# Altium schematic symbol library Karen_Components.SchLib: 203 symbols (part 1 of 2)
Pins are listed as number, name and electrical type; pins without a type are passive.

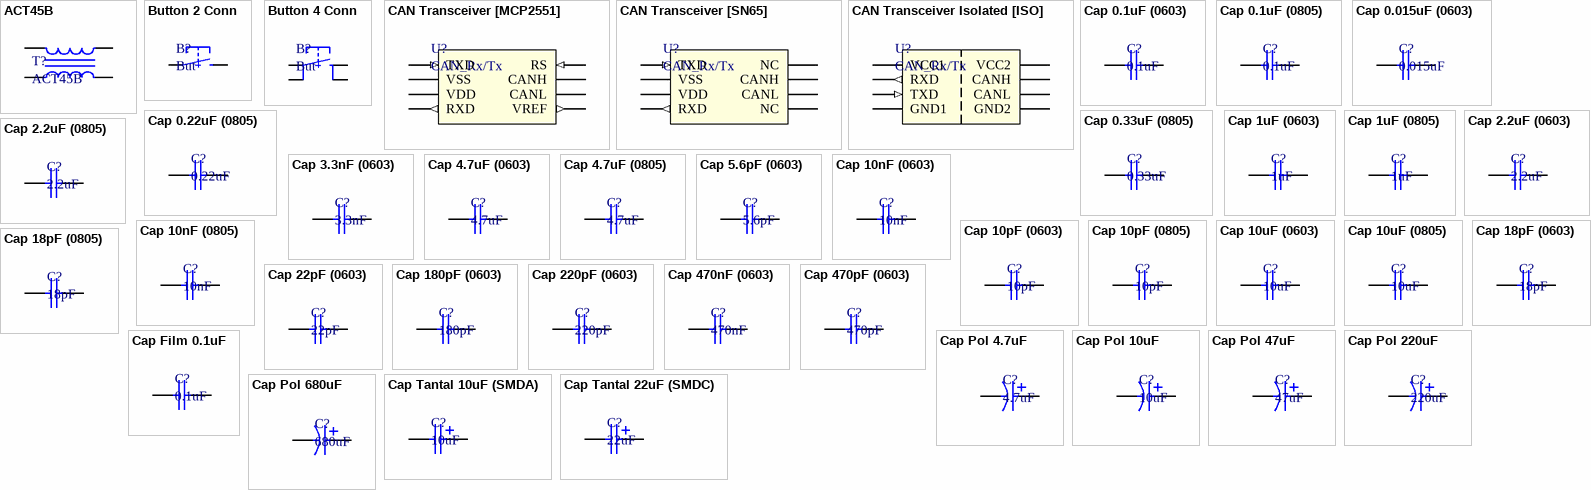
[diagram p0: symbols ACT45B to Cap Tantal 22uF (SMDC)]

## ACT45B
designator T?
Common mode filters / Automotive signal line (for power train/safety); Manufacturer: EMC Components; Part Number: ACT45B-510-2P-TL003; Type: Inductor; ComponentLink1Description: DataSheet; ComponentLink1URL: https://product.tdk.com/info/en/catalog/datasheets/cmf_automotive_signal_act45b_en.pdf
footprint ACT45B
pins: 1, 2, 3, 4

## Button 2 Conn
designator B?, comment But
Button 2 Conn SMD; Part Number: L-KLS7-TS3608-5.0-180; Manufacturer: KLS electronic co ltd; Type: Button; ComponentLink1Description: Chip&Dip; ComponentLink1URL: https://www.chipdip.ru/product/kls7-ts3608-5.0-180-td-02xa
footprint BUTTON 4x3
pins: 1, 2

## Button 4 Conn
designator B?, comment But
Button 4 Conn SMD; Manufacturer: TE Connectivity; Part Number: 1571563-9; Type: Button; ComponentLink1Description: Chip&Dip; ComponentLink1URL: https://www.chipdip.ru/product/tyco-1571563-9-fsm8jsmatr
footprint Button 6x6
pins: 1, 2, 3, 4

## CAN Transceiver [MCP2551]
designator U?, comment CAN_Rx/Tx
High-speed  CAN,  fault-tolerantdevice  that  serves  as  the  interface  between  a  CANprotocol controller and the physical bus.; Part Number: MCP2551-I/SN; Manufacturer: Microchip; ComponentLink1Description: DataSheet; ComponentLink1URL: https://static.chipdip.ru/lib/204/DOC000204457.pdf; ComponentLink2Description: Chip&Dip; ComponentLink2URL: https://www.chipdip.ru/product/mcp2551-i-sn; Type: IC
footprint SO-8
pins: 1 TXD (in), 2 VSS (power), 3 VDD (power), 4 RXD (out), 5 VREF (out), 6 CANL (oc), 7 CANH (oc), 8 RS (in)

## CAN Transceiver [SN65]
designator U?, comment CAN_Rx/Tx
3.3V CAN Transceiver; Part Number: SN65HVD232D; Manufacturer: Texas Instruments; ComponentLink1Description: DataSheet; ComponentLink1URL: https://static.chipdip.ru/lib/204/DOC000204848.pdf; ComponentLink2Description: Chip&Dip; ComponentLink2URL: https://www.chipdip.ru/product/sn65hvd230d?from=suggest_product; Type: IC
footprint SO-8
pins: 1 TXD (in), 2 VSS (power), 3 VDD (power), 4 RXD (out), 5 NC, 6 CANL (oc), 7 CANH (oc), 8 NC

## CAN Transceiver Isolated [ISO]
designator U?, comment CAN_Rx/Tx
Galvanically isolated CAN transceiver that meets the specifications of  the ISO11898-2 standard; Part Number: ISO1050DUB; Manufacturer: Texas Instruments; ComponentLink1Description: DataSheet; ComponentLink1URL: https://static.chipdip.ru/lib/143/DOC004143969.pdf; ComponentLink2Description: Chip&Dip; ComponentLink2URL: https://www.chipdip.ru/product/iso1050dub; Type: IC
footprint dub-8
pins: 1 VCC1 (power), 2 RXD (out), 3 TXD (in), 4 GND1 (power), 5 GND2 (power), 6 CANL (oc), 7 CANH (oc), 8 VCC2 (power)

## Cap 0.1uF (0603)
designator C?, comment 0.1uF
0.1uF X7R 16V 10% 0603; Manufacturer: Murata Manufacturing; Part Number: GRM188R71C104KA01D; Type: Capacitor; ComponentLink1Description: Chip&Dip; ComponentLink1URL: https://www.chipdip.ru/product/grm188r71c104ka01d
footprint 0603 Capicator
pins: 1, 2

## Cap 0.1uF (0805)
designator C?, comment 0.1uF
0.1uF X7R 50V 10% 0805; Manufacturer: Murata Manufacturing; Part Number: GRM21BR71E104KA01L; Type: Capacitor; ComponentLink1Description: Chip&Dip; ComponentLink1URL: https://www.chipdip.ru/product/grm21br71e104ka01l
footprint 0805 Capicator
pins: 1, 2

## Cap 0.015uF (0603)
designator C?, comment 0.015uF
0.015uF X7R 50V 10% 0603; Manufacturer: Taiwan; Part Number: MLCC0.015uFX7R50V10%0603; Type: Capacitor; ComponentLink1Description: Chip&Dip; ComponentLink1URL: https://www.chipdip.ru/product0/895412441
footprint 0603 Capicator
pins: 1, 2

## Cap 0.22uF (0805)
designator C?, comment 0.22uF
0.22uF X7R 50V 10% 0805; Manufacturer: Murata Manufacturing; Part Number: GRM21BR71H224KA01L; Type: Capacitor; ComponentLink1Description: Chip&Dip; ComponentLink1URL: https://www.chipdip.ru/product/grm21br71h224k
footprint 0805 Capicator
pins: 1, 2

## Cap 0.33uF (0805)
designator C?, comment 0.33uF
0.33uF X7R 25V 10% 0805; Manufacturer: Murata Manufacturing; Part Number: GRM21BR71E334KA01L; Type: Capacitor; ComponentLink1Description: Chip&Dip; ComponentLink1URL: https://www.chipdip.ru/product/grm21br71e334k
footprint 0805 Capicator
pins: 1, 2

## Cap 1uF (0603)
designator C?, comment 1uF
1uF X5R 25V 10% 0603; Manufacturer: Murata Manufacturing; Part Number: GRM188R61E105KAADD; Type: Capacitor; ComponentLink1Description: Chip&Dip; ComponentLink1URL: https://www.chipdip.ru/product/grm188r61e105k
footprint 0603 Capicator
pins: 1, 2

## Cap 1uF (0805)
designator C?, comment 1uF
1uF X7R 10% 16V 0805; Manufacturer: Murata Manufacturing; Part Number: GRM21BR71C105KA01K; Type: Capacitor; ComponentLink1Description: Chip&Dip; ComponentLink1URL: https://www.chipdip.ru/product/grm21br71c105k
footprint 0805 Capicator
pins: 1, 2

## Cap 2.2uF (0603)
designator C?, comment 2.2uF
2.2uF X5R 10V 10% 0603; Manufacturer: Murata Manufacturing; Part Number: GRM188R61A225KE34D; Type: Capacitor; ComponentLink1Description: Chip&Dip; ComponentLink1URL: https://www.chipdip.ru/product/grm188r61a225k
footprint 0603 Capicator
pins: 1, 2

## Cap 2.2uF (0805)
designator C?, comment 2.2uF
2.2uF X7R 25V 0805; Manufacturer: Murata Manufacturing; Part Number: GRM21BR71E225KA73L; Type: Capacitor; ComponentLink1Description: Chip&Dip; ComponentLink1URL: https://www.chipdip.ru/product/grm21br71e225k
footprint 0805 Capicator
pins: 1, 2

## Cap 3.3nF (0603)
designator C?, comment 3.3nF
X7R 3.3nF 100V 10% 0603; Manufacturer: Murata Manufacturing; Part Number: GRM188R72A332KA01D; Type: Capacitor; ComponentLink1Description: Chip&Dip; ComponentLink1URL: https://www.chipdip.ru/product/grm188r72a332ka01d
footprint 0603 Capicator
pins: 1, 2

## Cap 4.7uF (0603)
designator C?, comment 4.7uF
4.7uF X5R 6.3V 10% 0603; Manufacturer: Murata Manufacturing; Part Number: GRM188R60J475KE19D; Type: Capacitor; ComponentLink1Description: Chip&Dip; ComponentLink1URL: https://www.chipdip.ru/product/grm185r60g475me15d
footprint 0603 Capicator
pins: 1, 2

## Cap 4.7uF (0805)
designator C?, comment 4.7uF
4.7uF X5R 10% 25V 0805; Manufacturer: Murata Manufacturing; Part Number: GRM21BR61E475KA12L; Type: Capacitor; ComponentLink1Description: Chip&Dip; ComponentLink1URL: https://www.chipdip.ru/product/grm21br61e475ka12l
footprint 0805 Capicator
pins: 1, 2

## Cap 5.6pF (0603)
designator C?, comment 5.6pF
10pF NP0 50V 5% 0603; Manufacturer: Murata Manufacturing; Part Number: GRM1885C1H5R6CZ01D; Type: Capacitor; ComponentLink1Description: Chip&Dip; ComponentLink1URL: https://www.chipdip.ru/product/grm1885c1h5r6c
footprint 0603 Capicator
pins: 1, 2

## Cap 10nF (0603)
designator C?, comment 10nF
X7R 10nF 100V 10% 0603; Manufacturer: Murata Manufacturing; Part Number: GRM188R72A103KA01D; Type: Capacitor; ComponentLink1Description: Chip&Dip; ComponentLink1URL: https://www.chipdip.ru/product/grm188r72a103ka01d
footprint 0603 Capicator
pins: 1, 2

## Cap 10nF (0805)
designator C?, comment 10nF
0805 X7R 10nF 100V 10%; Manufacturer: Murata Manufacturing; Part Number: GRM21BR72A103KA01L; Type: Capacitor; ComponentLink1Description: Chip&Dip; ComponentLink1URL: https://www.chipdip.ru/product/grm21br72a103ka01l
footprint 0805 Capicator
pins: 1, 2

## Cap 10pF (0603)
designator C?, comment 10pF
10pF NP0 50V 5% 0603; Manufacturer: Murata Manufacturing; Part Number: GRM1885C1H100JA01D; Type: Capacitor; ComponentLink1Description: Chip&Dip; ComponentLink1URL: https://www.chipdip.ru/product/grm1885c1h100j
footprint 0603 Capicator
pins: 1, 2

## Cap 10pF (0805)
designator C?, comment 10pF
10pF NP0 50V 5% 0805; Manufacturer: Murata Manufacturing; Part Number: GRM2165C1H100JZ01D; Type: Capacitor; ComponentLink1Description: Chip&Dip; ComponentLink1URL: https://www.chipdip.ru/product/grm2165c1h100j
footprint 0805 Capicator
pins: 1, 2

## Cap 10uF (0603)
designator C?, comment 10uF
10uF X5R 25V 20% 0603; Manufacturer: Murata Manufacturing; Part Number: GRM188R61E106M; Type: Capacitor; ComponentLink1Description: Chip&Dip; ComponentLink1URL: https://www.chipdip.ru/product/grm188r61e106m
footprint 0603 Capicator
pins: 1, 2

## Cap 10uF (0805)
designator C?, comment 10uF
10uF X5R 10% 16V 0805; Manufacturer: Murata Manufacturing; Part Number: GRM21BR61C106KE15L; Type: Capacitor; ComponentLink1Description: Chip&Dip; ComponentLink1URL: https://www.chipdip.ru/product/grm21br61c106ke15l
footprint 0805 Capicator
pins: 1, 2

## Cap 18pF (0603)
designator C?, comment 18pF
18pF NP0 50V 5% 0603; Manufacturer: Murata Manufacturing; Part Number: GRM1885C1H180JA01D; Type: Capacitor; ComponentLink1Description: Chip&Dip; ComponentLink1URL: https://www.chipdip.ru/product/grm1885c1h180j
footprint 0603 Capicator
pins: 1, 2

## Cap 18pF (0805)
designator C?, comment 18pF
18pF NP0 50V 5% 0805; Manufacturer: Murata Manufacturing; Part Number: GRM2165C1H180JD01D; Type: Capacitor; ComponentLink1Description: Chip&Dip; ComponentLink1URL: https://www.chipdip.ru/product/grm2165c1h180j
footprint 0805 Capicator
pins: 1, 2

## Cap 22pF (0603)
designator C?, comment 22pF
22pF NP0 50V 5% 0603; Manufacturer: Taiwan; Part Number: MLCC22pFNPO50V5%0603; Type: Capacitor; ComponentLink1Description: Chip&Dip; ComponentLink1URL: https://www.chipdip.ru/product0/472852716
footprint 0603 Capicator
pins: 1, 2

## Cap 180pF (0603)
designator C?, comment 180pF
180pF NP0 50V 5% 0603; Manufacturer: Murata Manufacturing; Part Number: GRM1885C1H181JA01D; Type: Capacitor; ComponentLink1Description: Chip&Dip; ComponentLink1URL: https://www.chipdip.ru/product/grm1885c1h181j
footprint 0603 Capicator
pins: 1, 2

## Cap 220pF (0603)
designator C?, comment 220pF
220pF NP0 50V 5% 0603; Manufacturer: Murata Manufacturing; Part Number: GRM1885C1H221J; Type: Capacitor; ComponentLink1Description: Chip&Dip; ComponentLink1URL: https://www.chipdip.ru/product/grm1885c1h221j
footprint 0603 Capicator
pins: 1, 2

## Cap 470nF (0603)
designator C?, comment 470nF
470nF X7R 25V 10% 0603; Manufacturer: Murata Manufacturing; Part Number: GRM188R71E474KA12D; Type: Capacitor; ComponentLink1Description: Chip&Dip; ComponentLink1URL: https://www.chipdip.ru/product/grm188r71e474ka12d
footprint 0603 Capicator
pins: 1, 2

## Cap 470pF (0603)
designator C?, comment 470pF
470pF NP0 50V 5% 0603; Manufacturer: Taiwan; Part Number: MLCC470pFNPO50V5%0603; Type: Capacitor; ComponentLink1Description: Chip&Dip; ComponentLink1URL: https://www.chipdip.ru/product0/515359566
footprint 0603 Capicator
pins: 1, 2

## Cap Film 0.1uF
designator C?, comment 0.1uF
0.1uF 1000V 5%; Manufacturer: Epcos; Part Number: B32652A0104J000; Type: Capacitor; ComponentLink1Description: Chip&Dip; ComponentLink1URL: https://www.chipdip.ru/product/b32652a0104j000; ComponentLink2Description: DataSheet; ComponentLink2URL: https://static.chipdip.ru/lib/423/DOC004423752.pdf
footprint CAP Film 9x18 (DS1069-6 MR)
pins: 1, 2

## Cap Pol 4.7uF
designator C?, comment 4.7uF
ECAP SMD,  35V, 105°C; Part Number: B41121A7475M000; Manufacturer: Epcos; Type: Capacitor; ComponentLink1Description: Chip&Dip; ComponentLink1URL: https://www.chipdip.ru/product/b41121a7475m000
footprint Bar Cap 4x5.4
pins: 1, 2

## Cap Pol 10uF
designator C?, comment 10uF
ECAP SMD,  35V; Part Number: ECAPSMD10uF/35V; Manufacturer: China; Type: Capacitor; ComponentLink1Description: Chip&Dip; ComponentLink1URL: https://www.chipdip.ru/product0/884555856
footprint Bar Cap 5x5.4
pins: 1, 2

## Cap Pol 47uF
designator C?, comment 47uF
ECAP SMD,  25V, 105°C, 20%; Part Number: JCK1E470M063054; Manufacturer: JB; Type: Capacitor; ComponentLink1Description: Chip&Dip; ComponentLink1URL: https://www.chipdip.ru/product0/9000565730
footprint Bar Cap 6.3x7.7
pins: 1, 2

## Cap Pol 220uF
designator C?, comment 220uF
ECAP SMD,  10V, 105°C, 20%; Part Number: JCK1A221M063077; Manufacturer: JB; Type: Capacitor; ComponentLink1Description: Chip&Dip; ComponentLink1URL: https://www.chipdip.ru/product0/9000565740
footprint Bar Cap 6.3x7.7
pins: 1, 2

## Cap Pol 680uF
designator C?, comment 680uF
ECAP, 16V, 105°C, 20%, 8x16mm; Part Number: JRB1C681M03500800160000B; Manufacturer: JB; Type: Capacitor; ComponentLink1Description: Chip&Dip; ComponentLink1URL: https://www.chipdip.ru/product0/9000565740
footprint ECAP 8x16mm
pins: 1, 2

## Cap Tantal 10uF (SMDA)
designator C?, comment 10uF
TECAP, 10uF, 16V, case A, 10%; Part Number: 373033076; Manufacturer: China; Type: Capacitor; ComponentLink1Description: Chip&Dip; ComponentLink1URL: https://www.chipdip.ru/product0/373033076
footprint TANTAL_A_CASE
pins: 1, 2

## Cap Tantal 22uF (SMDC)
designator C?, comment 22uF
TECAP, 22uF, 16V, case C, 10%; Part Number: TECAP22/16VC10; Manufacturer: China; Type: Capacitor; ComponentLink1Description: Chip&Dip; ComponentLink1URL: https://www.chipdip.ru/product0/527359843
footprint TANTAL_C_CASE
pins: 1, 2

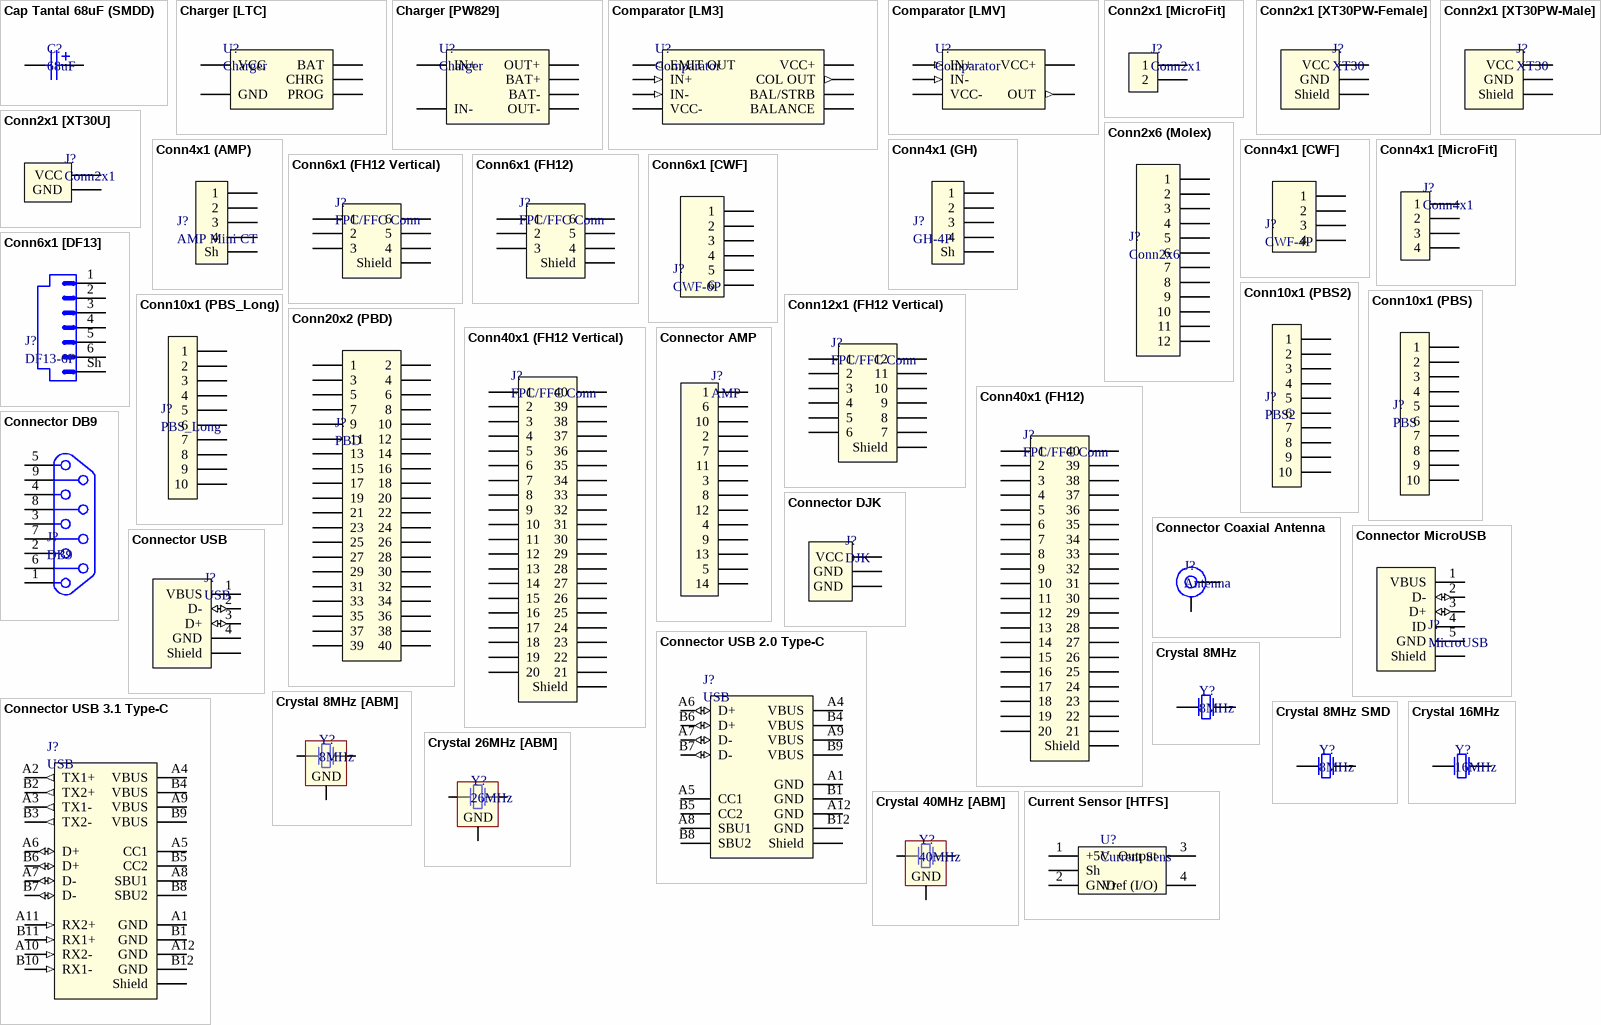
[diagram p1: symbols Cap Tantal 68uF (SMDD) to Current Sensor [HTFS]]

## Cap Tantal 68uF (SMDD)
designator C?, comment 68uF
TECAP, 68uF, 16V, case D, 10%; Part Number: TECAP68/16VD10; Manufacturer: China; Type: Capacitor; ComponentLink1Description: Chip&Dip; ComponentLink1URL: https://www.chipdip.ru/product0/979125339
footprint TANTAL_D_CASE
pins: 1, 2

## Charger [LTC]
designator U?, comment Charger
The LTC®4054 is a complete constant-current/constant-voltage linear charger for single cell lithium-ion batteries.Its ThinSOT package and low external component countmake the LTC4054 ideally suited for portable applications.Furthermore, the LTC4054 is specifically designed to workwithin USB power specifications; Part Number: LTC4054ES5-4.2#PBF; Manufacturer: Linear Technology; ComponentLink2Description: Chip&Dip; ComponentLink2URL: https://www.chipdip.ru/product/ltc4054es5-4.2; Type: IC; ComponentLink3Description: DataSheet; ComponentLink3URL: https://static.chipdip.ru/lib/760/DOC000760847.pdf
footprint SOT-23-5
pins: 1 CHRG, 2 GND (power), 3 BAT (power), 4 VCC (power), 5 PROG

## Charger [PW829]
designator U?, comment Charger
Charger for Li-Ion; Part Number: PW829; Manufacturer: Master Kit; ComponentLink2Description: Chip&Dip; ComponentLink2URL: https://www.chipdip.ru/product0/8002091037; Type: IC
footprint PW829
pins: B+ BAT+ (power), B- BAT- (power), IN+ (power), IN- (power), OUT+ (power), OUT- (power)

## Comparator [LM3]
designator U?, comment Comparator
Differential comparator with strobes; Part Number: LM311DR; Manufacturer: Texas Instruments; ComponentLink1Description: DataSheet; ComponentLink1URL: https://static.chipdip.ru/lib/222/DOC000222396.pdf; ComponentLink2Description: Chip&Dip; ComponentLink2URL: https://www.chipdip.ru/product/lm311d; Type: IC
footprint SO-8
pins: 1 EMIT OUT (out), 2 IN+ (in), 3 IN- (in), 4 VCC- (power), 5 BALANCE (oc), 6 BAL/STRB (oc), 7 COL OUT (out), 8 VCC+ (power)

## Comparator [LMV]
designator U?, comment Comparator
LMV7219 7-ns 2.7-V to 5-V Comparator with Rail-to-Rail Output; Part Number: LMV7219M5X/NOPB; Manufacturer: Texas Instruments; ComponentLink1Description: DataSheet; ComponentLink1URL: http://www.ti.com/lit/ds/symlink/lmv7219.pdf; ComponentLink2Description: Mouser; ComponentLink2URL: https://ru.mouser.com/ProductDetail/Texas-Instruments/LMV7219M5X-NOPB?qs=sGAEpiMZZMuayl%2FEk2kXcbEcxwmoPguctVQUIBgrLJY%3D; Type: IC
footprint SOT-23-5
pins: 1 OUT (out), 2 VCC- (power), 3 IN+ (in), 4 IN- (in), 5 VCC+ (power)

## Conn2x1 [MicroFit]
designator J?, comment Conn2x1
Micro-Fit 3.0 Right-Angle Header, 3.00mm Pitch, Single Row, 2 Circuits, with Snap-in Plastic Peg PCB Lock, Tin, Glow-Wire Capable, Black; Part Number: 436500200; Manufacturer: Molex; ComponentLink1Description: Molex; ComponentLink1URL: https://www.molex.com/molex/products/part-detail/pcb_headers/0436500200; Type: Connector
footprint MolexMicroFit 2x1
pins: 1, 2

## Conn2x1 [XT30PW-Female]
designator J?, comment XT30
Part Number: XT30PW; Manufacturer: Amass; ComponentLink1Description: AliExpress; ComponentLink1URL: https://ru.aliexpress.com/item/4000070113352.html?spm=a2g0o.productlist.0.0.39dd34bfyYuspa&algo_pvid=4d7d83f5-6270-4220-b100-9b5f13b0846d&algo_expid=4d7d83f5-6270-4220-b100-9b5f13b0846d-3&btsid=c67bc929-e3be-4af3-9fd9-25ac13ce4818&ws_ab_test=searchweb0_0,searchweb201602_,searchweb201603_55; Type: Connector
footprint HEADER 2 XT30PW FeMale
pins: 1 GND, 2 VCC, A Shield

## Conn2x1 [XT30PW-Male]
designator J?, comment XT30
Part Number: XT30PW; Manufacturer: Amass; ComponentLink1Description: AliExpress; ComponentLink1URL: https://ru.aliexpress.com/item/4000070113352.html?spm=a2g0o.productlist.0.0.39dd34bfyYuspa&algo_pvid=4d7d83f5-6270-4220-b100-9b5f13b0846d&algo_expid=4d7d83f5-6270-4220-b100-9b5f13b0846d-3&btsid=c67bc929-e3be-4af3-9fd9-25ac13ce4818&ws_ab_test=searchweb0_0,searchweb201602_,searchweb201603_55; Type: Connector
footprint HEADER 2 XT30PW Male
pins: 1 VCC, 2 GND, A Shield

## Conn2x1 [XT30U]
designator J?, comment Conn2x1
Part Number: XT30U; Manufacturer: Amass; ComponentLink1Description: AliExpress; ComponentLink1URL: https://ru.aliexpress.com/item/4000070113352.html?spm=a2g0o.productlist.0.0.39dd34bfyYuspa&algo_pvid=4d7d83f5-6270-4220-b100-9b5f13b0846d&algo_expid=4d7d83f5-6270-4220-b100-9b5f13b0846d-3&btsid=c67bc929-e3be-4af3-9fd9-25ac13ce4818&ws_ab_test=searchweb0_0,searchweb201602_,searchweb201603_55; Type: Connector
footprint HEADER 2 XT30U
pins: 1 VCC, 2 GND

## Conn2x6 (Molex)
designator J?, comment Conn2x6
Mini50 Unsealed Right-Angle Header, Dual Row, 12 Circuit, Polarization Option A,Black, Tray; Part Number: 348260124; Manufacturer: Molex; Type: Connector; ComponentLink1Description: Mouser; ComponentLink1URL: https://ru.mouser.com/ProductDetail/Molex/34826-0124?qs=sGAEpiMZZMs7eK6h2EBtKq%2FAicJUTTGjFIo7mj9gX0g%3D
footprint Conn2x6 (Molex)
pins: 1, 2, 3, 4, 5, 6, 7, 8, 9, 10, 11, 12

## Conn4x1 (AMP)
designator J?, comment AMP Mini CT
PCB Mount Header, Right Angle,  Wire-to-Board; Part Number: 292227-4; Manufacturer: TE Connectivity; Type: Connector; ComponentLink1Description: TE Connectivity; ComponentLink1URL: https://www.te.com/usa-en/product-292227-4.html; ComponentLink2Description: Mouser; ComponentLink2URL: https://ru.mouser.com/ProductDetail/TE-Connectivity/5-292227-4?qs=sGAEpiMZZMvlX3nhDDO4AKROQBdNP11Lv8TEYXLdyMk%3D
footprint AMP Mini CT; pin to pad GND>A
pins: 1, 2, 3, 4, GND Sh

## Conn4x1 (GH)
designator J?, comment GH-4P
Connector Receptacle 4 Position 0.049" (1.25mm) Tin Surface Mount, Right Angle; Part Number: SM04B-GHS-TB; Manufacturer: JST Corporation; Type: Connector; ComponentLink1Description: Chip&Dip; ComponentLink1URL: https://www.chipdip.ru/product1/8002655893
footprint JST_GH-4P-RA; pin to pad GND>A
pins: 1, 2, 3, 4, GND Sh

## Conn4x1 [CWF]
designator J?, comment CWF-4P
Right-Angle; Part Number: DS1069-4MRW6XB; Manufacturer: Ningbo connfly electronic (Zhenqin); Type: Connector; ComponentLink1Description: Chip&Dip; ComponentLink1URL: https://www.chipdip.ru/product/cwf-4r
footprint Conn4x1 (DS1069-6 MR)
pins: 1, 2, 3, 4

## Conn4x1 [MicroFit]
designator J?, comment Conn4x1
Micro-Fit 3.0 Right-Angle Header, 3.00mm Pitch, Single Row, 4 Circuits, with Snap-in Plastic Peg PCB Lock, Tin, Glow-Wire Capable, Black; Part Number: 436500400; Manufacturer: Molex; ComponentLink1Description: Molex; ComponentLink1URL: https://www.molex.com/molex/products/part-detail/pcb_headers/0436500400; Type: Connector
footprint MolexMicroFit 4x1
pins: 1, 2, 3, 4

## Conn6x1 (FH12 Vertical)
designator J?, comment FPC/FFC Conn
Connector to touch sensor's trail; Part Number: FH12-6S-0.5SVA(54); Manufacturer: Hirose Electric; Type: Connector; ComponentLink1Description: Mouser; ComponentLink1URL: https://ru.mouser.com/ProductDetail/Hirose-Connector/FH12-6S-05SVA54?qs=%2Fha2pyFaduhYbZFVunKSgIpYMlkzngMoGcACEbztduQ1P2V6tcZCQQ%3D%3D
footprint FH12-6s Vertical
pins: 1, 2, 3, 4, 5, 6, A Shield

## Conn6x1 (FH12)
designator J?, comment FPC/FFC Conn
Connector to touch sensor's trail; Part Number: FH12-6S-0.5SH(55); Manufacturer: Hirose Electric; Type: Connector; ComponentLink1Description: Chip&Dip; ComponentLink1URL: https://www.chipdip.ru/product1/8001997921
footprint FH12-6s
pins: 1, 2, 3, 4, 5, 6, A Shield

## Conn6x1 [CWF]
designator J?, comment CWF-6P
Right-Angle; Manufacturer: Ningbo connfly electronic (Zhenqin); Part Number: DS1069-6MRW6X-B; Type: Connector; ComponentLink1Description: Chip&Dip; ComponentLink1URL: https://www.chipdip.ru/product/cwf-6r
footprint Conn6x1 (DS1069-6 MR)
pins: 1, 2, 3, 4, 5, 6

## Conn6x1 [DF13]
designator J?, comment DF13-6P
[DF13-6P-1.25H]; Manufacturer: Hirose; Part Number: CL0536-0255-2-75; Type: Connector; ComponentLink1Description: Hirose; ComponentLink1URL: https://www.hirose.com/product/p/CL0536-0255-2-75?lang=ru
footprint DF13-6p-1.25H; pin to pad Sh>A
pins: 1, 2, 3, 4, 5, 6, Sh A

## Conn10x1 (PBS2)
designator J?, comment PBS2
Female; Part Number: DS1026-01-1*10S8BV; Manufacturer: Ningbo connfly electronic; Type: Connector; ComponentLink1Description: Chip&Dip; ComponentLink1URL: https://www.chipdip.ru/product/pbs2-10
footprint PBS2 10
pins: 1, 2, 3, 4, 5, 6, 7, 8, 9, 10

## Conn10x1 (PBS)
designator J?, comment PBS
Female; Part Number: DS1023-1*10S21; Manufacturer: Ningbo connfly electronic; Type: Connector; ComponentLink1Description: Chip&Dip; ComponentLink1URL: https://www.chipdip.ru/product/pbs-10
footprint PBS10
pins: 1, 2, 3, 4, 5, 6, 7, 8, 9, 10

## Conn10x1 (PBS_Long)
designator J?, comment PBS_Long
Long Arguino Male & Female Pins; Part Number: DS1023-30-1*10SF11-N-084; Manufacturer: Ningbo connfly electronic; Type: Connector; ComponentLink1Description: Chip&Dip; ComponentLink1URL: https://www.chipdip.ru/product/ds1023-30-1x10-for-arduino
footprint PBS10 Arduino
pins: 1, 2, 3, 4, 5, 6, 7, 8, 9, 10

## Conn12x1 (FH12 Vertical)
designator J?, comment FPC/FFC Conn
Connector to trail; Part Number: FH12-12S-0.5SVA(54); Manufacturer: Hirose Electric; Type: Connector; ComponentLink1Description: Mouser; ComponentLink1URL: https://ru.mouser.com/ProductDetail/Hirose-Connector/FH12-12S-05SVA54?qs=%2Fha2pyFadugx2rsdyHDVcXwbI8krQaq6%252BPNTW5YGSdYzC8JBsy5pU75ViyDjvRCP
footprint FH12-12S Vertical
pins: 1, 2, 3, 4, 5, 6, 7, 8, 9, 10, 11, 12, A Shield

## Conn20x2 (PBD)
designator J?, comment PBD
Female for PLD; Part Number: DS1023-2*20S21; Manufacturer: Ningbo connfly electronic; Type: Connector; ComponentLink1Description: Chip&Dip; ComponentLink1URL: https://www.chipdip.ru/product/pbd-40
footprint PBD 2x20
pins: 1, 2, 3, 4, 5, 6, 7, 8, 9, 10, 11, 12, 13, 14, 15, 16, 17, 18, 19, 20, 21, 22, 23, 24, 25, 26, 27, 28, 29, 30, 31, 32, 33, 34, 35, 36, 37, 38, 39, 40

## Conn40x1 (FH12 Vertical)
designator J?, comment FPC/FFC Conn
Connector to Display's trail; Part Number: FH12-40S-0.5SVA(54); Manufacturer: Hirose Electric; Type: Connector; ComponentLink1Description: Chip&Dip; ComponentLink1URL: https://www.chipdip.ru/product1/8002082143
footprint FH12-40S Vertical
pins: 1, 2, 3, 4, 5, 6, 7, 8, 9, 10, 11, 12, 13, 14, 15, 16, 17, 18, 19, 20, 21, 22, 23, 24, 25, 26, 27, 28, 29, 30, 31, 32, 33, 34, 35, 36, 37, 38, 39, 40, A Shield

## Conn40x1 (FH12)
designator J?, comment FPC/FFC Conn
Connector to Display's trail; Part Number: FH12-40S-0.5SH[55]; Manufacturer: Hirose Electric; Type: Connector; ComponentLink1Description: Chip&Dip; ComponentLink1URL: https://www.chipdip.ru/product1/8001997919
footprint FH12-40S
pins: 1, 2, 3, 4, 5, 6, 7, 8, 9, 10, 11, 12, 13, 14, 15, 16, 17, 18, 19, 20, 21, 22, 23, 24, 25, 26, 27, 28, 29, 30, 31, 32, 33, 34, 35, 36, 37, 38, 39, 40, A Shield

## Connector AMP
designator J?, comment AMP
AMP Connector; Part Number: 776266-1; Manufacturer: TE Connectivity; Type: Connector
footprint AMP 776266-1
pins: 1, 2, 3, 4, 5, 6, 7, 8, 9, 10, 11, 12, 13, 14

## Connector Coaxial Antenna
designator J?, comment Antenna
Part Number: IPX U. FL; Manufacturer: DIY BOX; ComponentLink1Description: AliExpress; ComponentLink1URL: https://aliexpress.ru/i/32666421757.html; Type: Connector
footprint IPX U. FL
pins: 1 Antenna, A GND

## Connector DB9
designator J?, comment DB9
CONN D-SUB PLUG 9POS R/A SOLDER; Part Number: DR09S-H-CN; Manufacturer: Auk Contractors; ComponentLink1Description: DataSheet; ComponentLink1URL: https://static.chipdip.ru/lib/009/DOC004009535.pdf; ComponentLink2Description: Chip&Dip; ComponentLink2URL: https://www.chipdip.ru/product/dr09s-h-cn-drb-9fa-dbr-9f; Type: Connector
footprint DB9
pins: 1, 2, 3, 4, 5, 6, 7, 8, 9

## Connector DJK
designator J?, comment DJK
DC 2.5x5.5mm; Part Number: DS-210A (PBT) (NB); Manufacturer: Dragon City Industries; ComponentLink1Description: Chip&Dip; ComponentLink1URL: https://www.chipdip.ru/product/ds-210a-djk-02b; Type: Connector
footprint DJK-02B
pins: 1 VCC (power), 2 GND, 3 GND

## Connector MicroUSB
designator J?, comment MicroUSB
Part Number: 473460001; Manufacturer: Molex; ComponentLink1Description: Chip&Dip; ComponentLink1URL: https://www.chipdip.ru/product/molex-47346-0001; Type: Connector
footprint MicroUSB 47346-0001; pin to pad 6>A
pins: 1 VBUS (power), 2 D- (io), 3 D+ (io), 4 ID, 5 GND (power), 6 Shield (power)

## Connector USB
designator J?, comment USB
Manufacturer: Ningbo connfly electronic; Part Number: DS1098-BN0; ComponentLink1Description: Chip&Dip; ComponentLink1URL: https://www.chipdip.ru/product/usb-asm-ds1098-b; ComponentLink2Description: DataSheet; ComponentLink2URL: https://static.chipdip.ru/lib/249/DOC000249309.pdf; Type: Connector
footprint USB; pin to pad 5>A+B
pins: 1 VBUS (power), 2 D- (io), 3 D+ (io), 4 GND (power), 5 Shield (power)

## Connector USB 2.0 Type-C
designator J?, comment USB
Manufacturer: Global Connector Technology; Part Number: USB4085-GF-A; ComponentLink1Description: Chip&Dip; ComponentLink1URL: https://www.chipdip.ru/product/usb4085-gf-a; Type: Connector; ComponentLink2Description: DataSheet; ComponentLink2URL: https://www.farnell.com/cad/2648880.pdf
footprint USB Type-C
pins: A Shield (power), A1 GND (power), A4 VBUS (power), A5 CC1, A6 D+ (io), A7 D- (io), A8 SBU1, A9 VBUS (power), A12 GND (power), B1 GND (power), B4 VBUS (power), B5 CC2, B6 D+ (io), B7 D- (io), B8 SBU2, B9 VBUS (power), B12 GND (power)

## Connector USB 3.1 Type-C
designator J?, comment USB
Manufacturer: Pulse Engineering; Part Number: E8124-010-01; ComponentLink1Description: Chip&Dip; ComponentLink1URL: https://www.chipdip.ru/product1/8002225623; Type: Connector
pins: 5 Shield (power), A1 GND (power), A2 TX1+ (out), A3 TX1- (out), A4 VBUS (power), A5 CC1, A6 D+ (io), A7 D- (io), A8 SBU1, A9 VBUS (power), A10 RX2- (in), A11 RX2+ (in), A12 GND (power), B1 GND (power), B2 TX2+ (out), B3 TX2- (out), B4 VBUS (power), B5 CC2, B6 D+ (io), B7 D- (io), B8 SBU2, B9 VBUS (power), B10 RX1- (in), B11 RX1+ (in), B12 GND (power)

## Crystal 8MHz
designator Y?, comment 8MHz
Crystal. HC-49S (US); Manufacturer: China; Part Number: 8.000MHzHC-49US; Type: Crystal; ComponentLink1Description: Chip&Dip; ComponentLink1URL: https://www.chipdip.ru/product/8mhz-hc-49s
footprint R38 (Crystal)
pins: 1, 2

## Crystal 8MHz [ABM]
designator Y?, comment 8MHz
8.0MHz 10pf 10ppm -10C +60C; Manufacturer: ABRACON; Part Number: ABM3B-8.000MHZ-10-1UT; Type: Crystal; ComponentLink1Description: Mouser; ComponentLink1URL: https://ru.mouser.com/ProductDetail/ABRACON/ABM3B-8000MHZ-10-1UT?qs=sGAEpiMZZMsBj6bBr9Q9aQYUWCbsL2Wc65je5Ut7byg%3D; ComponentLink2Description: DataSheet; ComponentLink2URL: https://ru.mouser.com/datasheet/2/3/abm3b-39910.pdf
footprint Crystal ABM
pins: 1, 2, GND

## Crystal 8MHz SMD
designator Y?, comment 8MHz
Crystal. HC-49SM (US); Manufacturer: China; Part Number: 8.000MHzHC-49SM; Type: Crystal; ComponentLink1Description: Chip&Dip; ComponentLink1URL: https://www.chipdip.ru/product/8mhz-hc-49sm
footprint hc-49sm
pins: 1, 2

## Crystal 16MHz
designator Y?, comment 16MHz
Crystal. HC-49S (US); Manufacturer: China; Part Number: 16.000MHzHC-49US; Type: Crystal; ComponentLink1Description: Chip&Dip; ComponentLink1URL: https://www.chipdip.ru/product/16mhz-hc-49s
footprint R38 (Crystal)
pins: 1, 2

## Crystal 26MHz [ABM]
designator Y?, comment 26MHz
26.0MHz 10pf 10ppm -10C +60C; Manufacturer: ABRACON; Part Number: ABM3B-26.000MHZ-10-1-U-T; Type: Crystal; ComponentLink1Description: Mouser; ComponentLink1URL: https://ru.mouser.com/ProductDetail/ABRACON/ABM3B-26000MHZ-10-1-U-T?qs=sGAEpiMZZMsBj6bBr9Q9aYIb7x83P10s%2FVqDaCBbZQI%3D; ComponentLink2Description: DataSheet; ComponentLink2URL: https://ru.mouser.com/datasheet/2/3/abm3b-1774998.pdf
footprint Crystal ABM
pins: 1, 2, GND

## Crystal 40MHz [ABM]
designator Y?, comment 40MHz
40.0MHz 10pf 10ppm -10C +60C; Manufacturer: ABRACON; Part Number: ABM3B-40.000MHZ-10-1-U-T; Type: Crystal; ComponentLink1Description: Mouser; ComponentLink1URL: https://ru.mouser.com/ProductDetail/ABRACON/ABM3B-40000MHZ-10-1-U-T?qs=sGAEpiMZZMsBj6bBr9Q9acVJ3l36SOAPS6GFViLdkvE%3D; ComponentLink2Description: DataSheet; ComponentLink2URL: https://ru.mouser.com/datasheet/2/3/abm3b-1774998.pdf
footprint Crystal ABM
pins: 1, 2, GND

## Current Sensor [HTFS]
designator U?, comment Current Sens
The HTFS 200-P is a Current Transducer for the electronic measurement of DC, AC, pulsed, mixed with a galvanic isolation between the primary circuit (high power) and the secondary circuit (electronic circuit). Hall effect measuring principle.; Manufacturer: LEM; Type: IC; Part Number: HTFS 200-P; ComponentLink1Description: Chip&Dip; ComponentLink1URL: https://www.chipdip.ru/product/htfs-200-p; ComponentLink2Description: DataSheet; ComponentLink2URL: http://www.farnell.com/datasheets/1524365.pdf
footprint HTFS
pins: 1 +5V, 2 GND, 3 Output, 4 Vref (I/O), A Sh

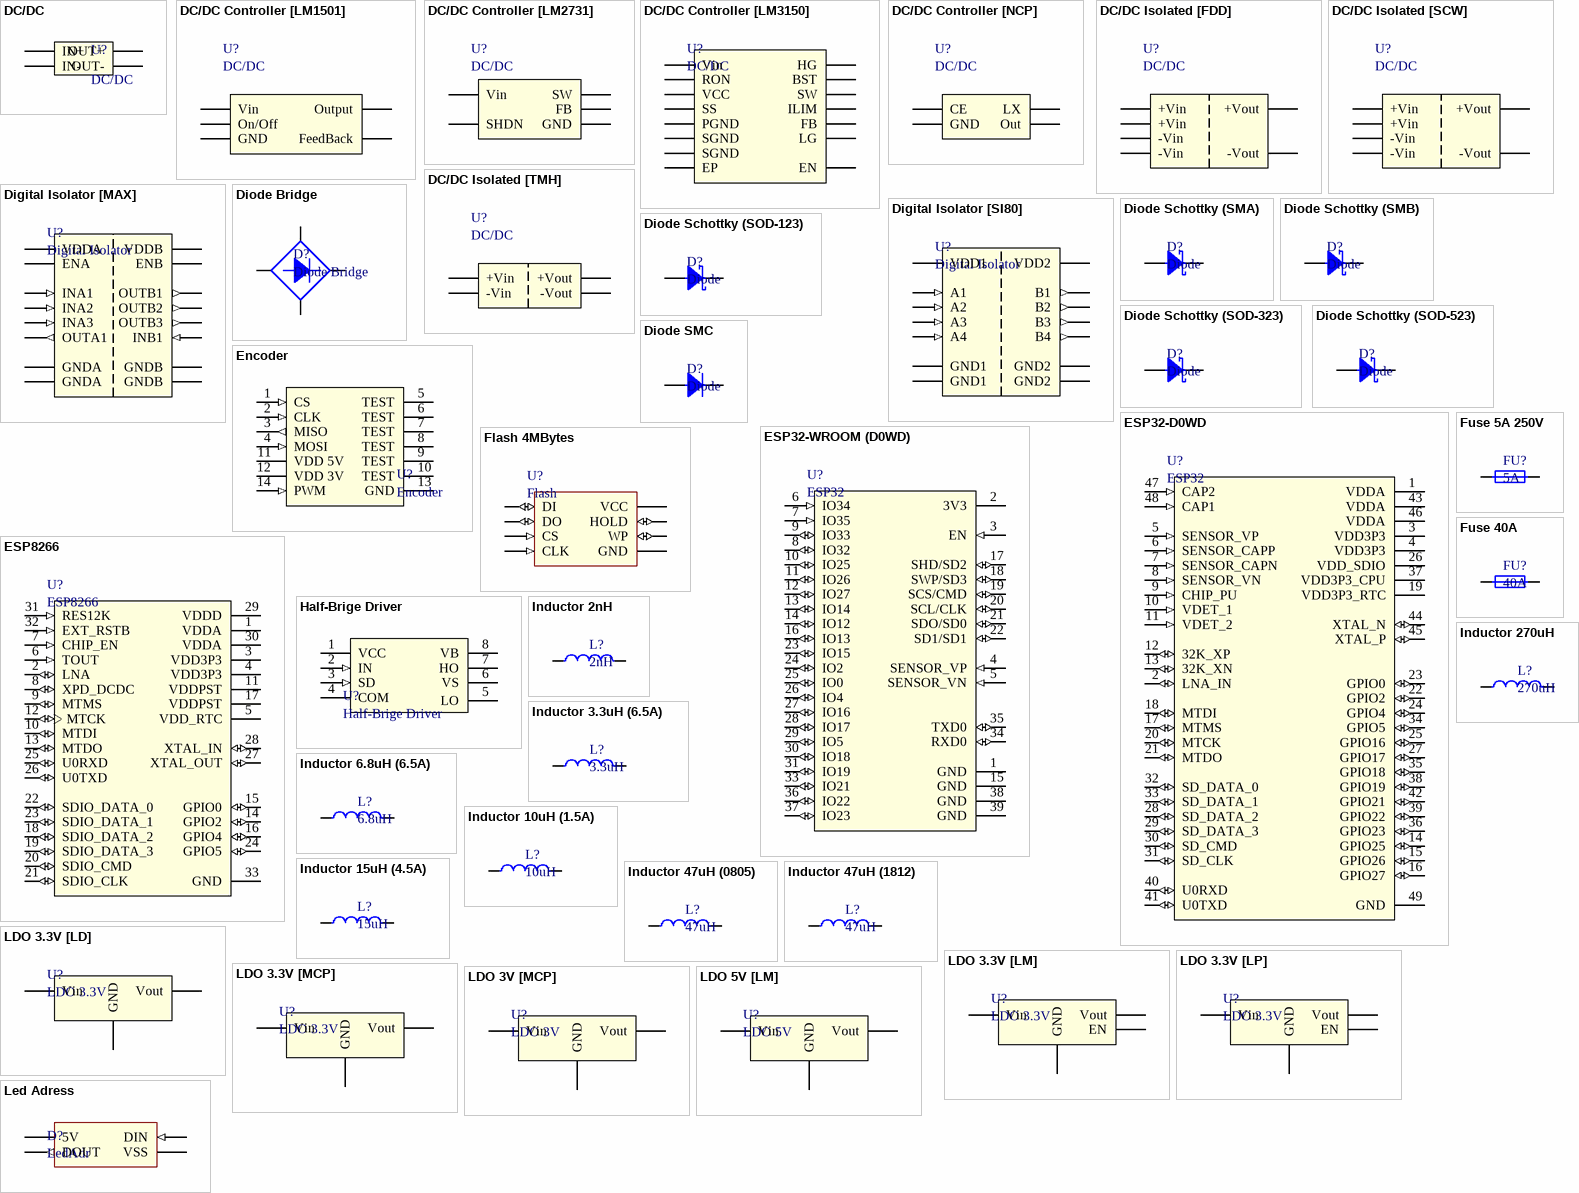
[diagram p2: symbols DC/DC to Led Adress]

## DC/DC
designator U?
DC/DC 5V with MP2307 Chip
footprint DC-DC
pins: 1 IN-, 2 IN+, 3 OUT-, 4 OUT+

## DC/DC Controller [LM1501]
designator U?, comment DC/DC
The LM1501Aseries of regulators are monolithic integrated circuits that provideall the active functions for astep-down  switching  regulator,  capable  ofdriving  a  5A  load  with  excellent  line  and  load  regulation.; Manufacturer: TAEJIN TECHNOLOGY; Part Number: LM1501AGR-ADJ; ComponentLink1Description: Chip&Dip; ComponentLink1URL: https://www.chipdip.ru/product/lm1501agr-adj; ComponentLink2Description: DataSheet; ComponentLink2URL: https://static.chipdip.ru/lib/138/DOC004138836.pdf; Type: IC
footprint TO-263-5L
pins: 1 Vin (power) "Input Supply Voltage", 2 Output (power), 3 GND (power) "Power Ground", 4 FeedBack, 5 On/Off

## DC/DC Controller [LM2731]
designator U?, comment DC/DC
The  LM2731  switching  regulators  are  current-mode  boostconverters  operating  at  fixed  frequencies  of  1.6  MHz  (“X”option) and 600 kHz (“Y” option).; Manufacturer: Texas Instruments; Part Number: LM2731YMF/NOPB; ComponentLink1Description: Chip&Dip; ComponentLink1URL: https://www.chipdip.ru/product/lm2731ymf-nopb; ComponentLink2Description: DataSheet; ComponentLink2URL: https://static.chipdip.ru/lib/491/DOC000491907.pdf; Type: IC
footprint SOT-23-5
pins: 1 SW, 2 GND (power), 3 FB, 4 SHDN (power), 5 Vin (power) "Input Supply Voltage"

## DC/DC Controller [LM3150]
designator U?, comment DC/DC
A SIMPLE SWITCHER® synchronous Step-down Controller capable of providing up to 12A of output current in a typical application. Operating with an input voltage range of 6V to 42V, the LM3150 features an adjustable output voltage down to 0.6V; Manufacturer: Texas Instruments; Part Number: LM3150MH/NOPB; ComponentLink1Description: Chip&Dip; ComponentLink1URL: https://www.chipdip.ru/product/lm3150mh-nopb; ComponentLink2Description: DataSheet; ComponentLink2URL: https://static.chipdip.ru/lib/029/DOC001029258.pdf; Type: IC
footprint HTSSOP-14
pins: 1 VCC (power) "Supply Voltage for FET Drivers", 2 Vin "Input Supply Voltage", 3 EN "Enable", 4 FB "Feedback", 5 SGND (power) "Signal Ground", 6 SS (oc) "Soft Start", 7 RON "On-Time Control", 8 ILIM "Current Limit", 9 SGND (power) "Signal Ground", 10 SW "Swich Node", 11 HG "High-Side Gate Drive", 12 BST (power) "Connection for Bootstrap Capicator", 13 LG "Low-Side Gate Drive", 14 PGND (power) "Power Ground", A EP (power) "Signal Ground"

## DC/DC Controller [NCP]
designator U?, comment DC/DC
The NCP1402 series are monolithic micropower step−up DC to DCconverter that are specially designed for powering portable equipmentfrom  one  or  two  cell  battery  packs.; Manufacturer: ON Semiconductor; Part Number: NCP1402SN50T1G; ComponentLink1Description: Chip&Dip; ComponentLink1URL: https://www.chipdip.ru/product/ncp1402sn50t1g; ComponentLink2Description: DataSheet; ComponentLink2URL: https://static.chipdip.ru/lib/080/DOC001080266.pdf; Type: IC
footprint SOT-23-5
pins: 1 CE (power) "Input Supply Voltage", 2 Out (power), 4 GND (power), 5 LX

## DC/DC Isolated [FDD]
designator U?, comment DC/DC
DC - DC CONVERTER2 ~ 3W  SINGLE OUTPUT; Manufacturer: Chinfa Electronics; Part Number: FDD03-05S4; ComponentLink1Description: Chip&Dip; ComponentLink1URL: https://www.chipdip.ru/product/fdd03-05s4; ComponentLink2Description: DataSheet; ComponentLink2URL: https://static.chipdip.ru/lib/552/DOC000552732.pdf; Type: IC
footprint DIP24 DC-DC FDD03
pins: 2 -Vin (power) "Power Ground", 3 -Vin (power) "Power Ground", 14 +Vout (power), 16 -Vout (power), 22 +Vin (power) "Input Supply Voltage", 23 +Vin (power) "Input Supply Voltage"

## DC/DC Isolated [SCW]
designator U?, comment DC/DC
1000VDC I/O isolation, Protections: Short circuit / Overload, 100% burn-in test; Manufacturer: MEAN WELL; Part Number: SCW03A-05; ComponentLink1Description: Chip&Dip; ComponentLink1URL: https://www.chipdip.ru/product/scw03a-05; ComponentLink2Description: DataSheet; ComponentLink2URL: https://static.chipdip.ru/lib/149/DOC003149337.pdf; Type: IC
footprint DIP24 DC-DC SCW
pins: 2 -Vin (power) "Power Ground", 3 -Vin (power) "Power Ground", 14 +Vout (power), 16 -Vout (power), 22 +Vin (power) "Input Supply Voltage", 23 +Vin (power) "Input Supply Voltage"

## DC/DC Isolated [TMH]
designator U?, comment DC/DC
The TMH series are ultra miniature, isolated 2 Watt DC/DC-converters in a Single-in-Line  package  (SIP); Manufacturer: Traco Power; Part Number: TMH1205S; ComponentLink1Description: Chip&Dip; ComponentLink1URL: https://www.chipdip.ru/product/tmh-1205s; ComponentLink2Description: DataSheet; ComponentLink2URL: https://static.chipdip.ru/lib/005/DOC001005854.pdf; Type: IC
footprint SIP7
pins: 1 +Vin (power) "Input Supply Voltage", 2 -Vin (power) "Power Ground", 4 -Vout (power), 6 +Vout (power)

## Digital Isolator [MAX]
designator U?, comment Digital Isolator
4-channel,  2.75kVRMS  and  3.75kVRMS  digital  isolator; Manufacturer: Maxim Semiconductor; Part Number: MAX14931EASE+; ComponentLink1Description: Chip&Dip; ComponentLink1URL: https://www.chipdip.ru/product/max14931ease; ComponentLink2Description: DataSheet; ComponentLink2URL: https://datasheets.maximintegrated.com/en/ds/MAX14130-MAX14932.pdf; Type: IC
footprint SOIC-16
pins: 1 VDDA (power), 2 GNDA (power), 3 INA1 (in), 4 INA2 (in), 5 INA3 (in), 6 OUTA1 (out), 7 ENA, 8 GNDA (power), 9 GNDB (power), 10 ENB, 11 INB1 (in), 12 OUTB3 (out), 13 OUTB2 (out), 14 OUTB1 (out), 15 GNDB (power), 16 VDDB (power)

## Digital Isolator [SI80]
designator U?, comment Digital Isolator
Silicon  Lab's  family  of  low-power  digital  isolators  are  CMOS  devicesoffering substantial data rate, propagation delay, power, size, reliability,and external BOM advantages over legacy isolation technologies.; Manufacturer: Silicon Laboratories; Part Number: SI8045AA-B-IU; ComponentLink1Description: Chip&Dip; ComponentLink1URL: https://www.chipdip.ru/product/si8045aa-b-iu; ComponentLink2Description: DataSheet; ComponentLink2URL: https://static6.arrow.com/aropdfconversion/a78c70b03c1ab78fff2102d98b369cf2ccbf4a39/si80xx-1kv.pdf; Type: IC
footprint QSOP-16
pins: 1 VDD1 (power), 2 GND1 (power), 3 A1 (in), 4 A2 (in), 5 A3 (in), 6 A4 (in), 8 GND1 (power), 9 GND2 (power), 11 B4 (out), 12 B3 (out), 13 B2 (out), 14 B1 (out), 15 GND2 (power), 16 VDD2 (power)

## Diode Bridge
designator D?
4A 400V; Part Number: GBL04-E3/51; Manufacturer: Vishay; Type: Diode; ComponentLink1Description: DataSheet; ComponentLink1URL: https://static.chipdip.ru/lib/151/DOC000151040.pdf; ComponentLink2Description: Chip&Dip; ComponentLink2URL: https://www.chipdip.ru/product/gbl04
footprint Diode Bridge
pins: 1 "+", 2 "~", 3 "~", 4 "-"

## Diode Schottky (SMA)
designator D?, comment Diode
Diode Schottky 3A 40V; Part Number: B340A-E3/61T; Manufacturer: Vishay; Type: Diode; ComponentLink1Description: DataSheet; ComponentLink1URL: https://static.chipdip.ru/lib/652/DOC001652710.pdf; ComponentLink2Description: Chip&Dip; ComponentLink2URL: https://www.chipdip.ru/product/b340a-e3-61t-2
footprint SMA
pins: 1, 2

## Diode Schottky (SMB)
designator D?, comment Diode
Diode Schottky 5A 40V; Part Number: SK54; Manufacturer: Diotec Semiconductor; Type: Diode; ComponentLink1Description: DataSheet; ComponentLink1URL: https://static.chipdip.ru/lib/092/DOC001092363.pdf; ComponentLink2Description: Chip&Dip; ComponentLink2URL: https://www.chipdip.ru/product/sk54
footprint SMB
pins: 1, 2

## Diode Schottky (SOD-123)
designator D?, comment Diode
0.5 A, Low Forward Voltage less than 385 mV, 400 mW Power Dissipation Package; Part Number: MBR0520L; Manufacturer: ON Semiconductor; Type: Diode; ComponentLink1Description: DataSheet; ComponentLink1URL: http://www.farnell.com/datasheets/1875336.pdf; ComponentLink2Description: Chip&Dip; ComponentLink2URL: https://www.chipdip.ru/product/mbr0520l
footprint sod-123
pins: 1, 2

## Diode Schottky (SOD-323)
designator D?, comment Diode
Diode Schottky 0.2A 30V; Part Number: BAT54HT1G; Manufacturer: ON Semiconductor; Type: Diode; ComponentLink1Description: DataSheet; ComponentLink1URL: http://www.farnell.com/datasheets/2251626.pdf; ComponentLink2Description: Chip&Dip; ComponentLink2URL: https://www.chipdip.ru/product/bat54ht1g-ons
footprint sod-323
pins: 1, 2

## Diode Schottky (SOD-523)
designator D?, comment Diode
Schottky Barrier Diodes, 200mA to 500mA; Part Number: 1PS79SB30,115; Manufacturer: Nexperia; Type: Diode; ComponentLink1Description: DataSheet; ComponentLink1URL: https://static.chipdip.ru/lib/583/DOC001583065.pdf; ComponentLink2Description: Chip&Dip; ComponentLink2URL: https://www.chipdip.ru/product/1ps79sb30.115
footprint SOD-523
pins: 1, 2

## Diode SMC
designator D?, comment Diode
3A 50V, (DO-214AB/SMC); Part Number: GS3A; Manufacturer: Yangzhou Yangjie Electronic Technology; Type: Diode; ComponentLink1Description: DataSheet; ComponentLink1URL: https://static.chipdip.ru/lib/152/DOC001152906.pdf; ComponentLink2Description: Chip&Dip; ComponentLink2URL: https://www.chipdip.ru/product/gs3a
footprint DO-214AB(SMC)
pins: 1, 2

## Encoder
designator U?
Magnetic Rotary Encoder; Part Number: AS5048A; Manufacturer: ams; ComponentLink1Description: DataSheet; ComponentLink1URL: https://www.mouser.com/ds/2/588/AS5048_DS000298_3-00-522551.pdf; Type: IC
footprint TSSOP-14
pins: 1 CS (in), 2 CLK (in), 3 MISO (out), 4 MOSI (in), 5 TEST (power), 6 TEST (power), 7 TEST (power), 8 TEST (power), 9 TEST (power), 10 TEST (power), 11 VDD 5V (power), 12 VDD 3V (power), 13 GND (power), 14 PWM (in)

## ESP32-D0WD
designator U?, comment ESP32
ESP32 is a single 2.4 GHz Wi-Fi-and-Bluetooth combo chip designed with the TSMC ultra-low-power 40 nmtechnology. It is designed to achieve the best power and RF performance, showing robustness, versatility andreliability in a wide variety of applications and power scenarios.; Part Number: ESP32-D0WD; Manufacturer: Espressif Systems; ComponentLink1Description: Chip&Dip; ComponentLink1URL: https://www.chipdip.ru/product1/8001784100; ComponentLink2Description: DataSheet; ComponentLink2URL: https://ru.mouser.com/datasheet/2/891/esp32_datasheet_en-1223853.pdf; Type: IC
footprint QFN-48 5x5
pins: 1 VDDA (power) "Analog power supply (2.3 V – 3.6 V)", 2 LNA_IN (io) "RF input and output", 3 VDD3P3 (power) "Analog power supply (2.3 V – 3.6 V)", 4 VDD3P3 (power) "Analog power supply (2.3 V – 3.6 V)", 5 SENSOR_VP (in) "GPIO36, ADC1_CH0,  RTC_GPIO0", 6 SENSOR_CAPP (in) "GPIO37, ADC1_CH1,  RTC_GPIO1", 7 SENSOR_CAPN (in) "GPIO38, ADC1_CH2,  RTC_GPIO2", 8 SENSOR_VN (in) "GPIO39, ADC1_CH3,  RTC_GPIO3", 9 CHIP_PU (in) "High: On; enables the chipLow: Off; the chip powers offNote: Do not leave the CHIP_PU pin floating.", 10 VDET_1 (in) "GPIO34, ADC1_CH6,  RTC_GPIO4", 11 VDET_2 (in) "GPIO35, ADC1_CH7,  RTC_GPIO5", 12 32K_XP (io) "GPIO32, ADC1_CH4,  RTC_GPIO9,  TOUCH9,  32K_XP (32.768 kHz crystal oscillator input)", 13 32K_XN (io) "GPIO33, ADC1_CH5,  RTC_GPIO8,  TOUCH8,  32K_XN (32.768 kHz crystal oscillator output)", 14 GPIO25 (io) "GPIO25, ADC2_CH8,  RTC_GPIO6,  DAC_1,   EMAC_RXD0", 15 GPIO26 (io) "GPIO26, ADC2_CH9,  RTC_GPIO7,  DAC_2,   EMAC_RXD1", 16 GPIO27 (io) "GPIO27, ADC2_CH7,  RTC_GPIO17, TOUCH7,  EMAC_RX_DV", 17 MTMS (io) "GPIO14, ADC2_CH6,  RTC_GPIO16, TOUCH6,  EMAC_TXD2,  HSPICLK,  HS2_CLK,  SD_CLK,  MTMS", 18 MTDI (io) "GPIO12, ADC2_CH5,  RTC_GPIO15, TOUCH5,  EMAC_TXD3,  HSPIQ,    HS2_DATA2, SD_DATA2, MTDI", 19 VDD3P3_RTC (power) "Input power supply for RTC IO (2.3 V – 3.6 V)", 20 MTCK (io) "GPIO13, ADC2_CH4,  RTC_GPIO14, TOUCH4,  EMAC_RX_ER, HSPID,    HS2_DATA3, SD_DATA3, MTCK", 21 MTDO (io) "GPIO15, ADC2_CH3,  RTC_GPIO13, TOUCH3,  EMAC_RXD3,  HSPICS0,  HS2_CMD,  SD_CMD,  MTDO", 22 GPIO2 (io) "GPIO2,  ADC2_CH2,  RTC_GPIO12, TOUCH2,HSPIWP,  HS2_DATA0, SD_DATA0", 23 GPIO0 (io) "GPIO0,  ADC2_CH1,  RTC_GPIO11, TOUCH1,  EMAC_TX_CLK,CLK_OUT1", 24 GPIO4 (io) "GPIO4,  ADC2_CH0,  RTC_GPIO10, TOUCH0,  EMAC_TX_ER, HSPIHD,  HS2_DATA1, SD_DATA1", 25 GPIO16 (io) "GPIO16, HS1_DATA4,  U2RXD,EMAC_CLK_OUT", 26 VDD_SDIO (power) "Output power supply: 1.8 V or the same voltage as VDD3P3_RTC", 27 GPIO17 (io) "GPIO17, HS1_DATA5,  U2TXD,EMAC_CLK_OUT_180", 28 SD_DATA_2 (io) "GPIO9,  HS1_DATA2,  U1RXD,SD_DATA2, SPIHD", 29 SD_DATA_3 (io) "GPIO10, HS1_DATA3,  U1TXD,SD_DATA3, SPIWP", 30 SD_CMD (io) "GPIO11, HS1_CMD,   U1RTS,SD_CMD,  SPICS0", 31 SD_CLK (io) "GPIO6,  HS1_CLK,    U1CTS,SD_CLK,  SPICLK", 32 SD_DATA_0 (io) "GPIO7,  HS1_DATA0,  U2RTS,SD_DATA0, SPIQ", 33 SD_DATA_1 (io) "GPIO8,  HS1_DATA1,  U2CTS,SD_DATA1, SPID", 34 GPIO5 (io) "GPIO5,  HS1_DATA6,  VSPICS0,EMAC_RX_CLK", 35 GPIO18 (io) "GPIO18, HS1_DATA7,  VSPICLK", 36 GPIO23 (io) "GPIO23, HS1_STROBE, VSPID", 37 VDD3P3_CPU (power) "Input power supply for CPU IO (1.8 V – 3.6 V)", 38 GPIO19 (io) "GPIO19, U0CTS,VSPIQ,EMAC_TXD0", 39 GPIO22 (io) "GPIO22, U0RTS,VSPIWP,EMAC_TXD1", 40 U0RXD (io) "GPIO3,  U0RXD,CLK_OUT2", 41 U0TXD (io) "GPIO1,  U0TXD,CLK_OUT3,   EMAC_RXD2", 42 GPIO21 (io) "GPIO21,VSPIHD,EMAC_TX_EN", 43 VDDA (power) "Analog power supply (2.3 V – 3.6 V)", 44 XTAL_N (io) "External crystal output", 45 XTAL_P (io) "External crystal input", 46 VDDA (power) "Analog power supply (2.3 V – 3.6 V)", 47 CAP2 (in) "Connects to a 3 nF capacitor and 20 kΩresistor in parallel to CAP1", 48 CAP1 (in) "Connects to a 10 nF series capacitor to ground", 49 GND (power) "Ground"

## ESP32-WROOM (D0WD)
designator U?, comment ESP32
ESP32-WROOM-32 is a powerful, generic Wi-Fi+BT+BLE MCU module that targets a wide variety of applications,ranging from low-power sensor networks to the most demanding tasks, such as voice encoding, music streamingand MP3 decoding; Part Number: ESP32-WROOM-32U (16MB); Manufacturer: Espressif Systems; ComponentLink1Description: Mouser; ComponentLink1URL: https://ru.mouser.com/ProductDetail/Espressif-Systems/ESP32-WROOM-32U-16MB?qs=sGAEpiMZZMu3sxpa5v1qrsMD9%252BwKyL2mrwTVktUnYUY%3D; ComponentLink2Description: DataSheet; ComponentLink2URL: https://ru.mouser.com/datasheet/2/891/esp32-wroom-32d_esp32-wroom-32u_datasheet_en-1365844.pdf; Type: IC
footprint ESP32-WROOM-32U
pins: 1 GND (power), 2 3V3 (power), 3 EN (in) "Module-enable signal. Active high", 4 SENSOR_VP (in) "GPIO36, ADC1_CH0, RTC_GPIO0", 5 SENSOR_VN (in) "GPIO39, ADC1_CH3, RTC_GPIO3", 6 IO34 (in) "GPIO34, ADC1_CH6, RTC_GPIO4", 7 IO35 (in) "GPIO35, ADC1_CH7, RTC_GPIO5", 8 IO32 (io) "GPIO32, XTAL_32K_P (32.768 kHz crystal oscillator input), ADC1_CH4,TOUCH9, RTC_GPIO9", 9 IO33 (io) "GPIO33, XTAL_32K_N (32.768 kHz crystal oscillator output), ADC1_CH5,TOUCH8, RTC_GPIO8", 10 IO25 (io) "GPIO25, DAC_1, ADC2_CH8, RTC_GPIO6, EMAC_RXD0", 11 IO26 (io) "GPIO26, DAC_2, ADC2_CH9, RTC_GPIO7, EMAC_RXD1", 12 IO27 (io) "GPIO27, ADC2_CH7, TOUCH7, RTC_GPIO17, EMAC_RX_DV", 13 IO14 (io) "GPIO14, ADC2_CH6, TOUCH6, RTC_GPIO16, MTMS, HSPICLK, HS2_CLK,SD_CLK, EMAC_TXD2", 14 IO12 (io) "GPIO12, ADC2_CH5, TOUCH5, RTC_GPIO15, MTDI, HSPIQ, HS2_DATA2,SD_DATA2, EMAC_TXD3", 15 GND (power), 16 IO13 (io) "GPIO13, ADC2_CH4, TOUCH4, RTC_GPIO14, MTCK, HSPID, HS2_DATA3,SD_DATA3, EMAC_RX_ER", 17 SHD/SD2 (io) "GPIO9, SD_DATA2, SPIHD, HS1_DATA2, U1RXD", 18 SWP/SD3 (io) "GPIO10, SD_DATA3, SPIWP, HS1_DATA3, U1TXD", 19 SCS/CMD (io) "GPIO11, SD_CMD, SPICS0, HS1_CMD, U1RTS", 20 SCL/CLK (io) "GPIO6, SD_CLK, SPICLK, HS1_CLK, U1CTS", 21 SDO/SD0 (io) "GPIO7, SD_DATA0, SPIQ, HS1_DATA0, U2RTS", 22 SD1/SD1 (io) "GPIO8, SD_DATA1, SPID, HS1_DATA1, U2CTS", 23 IO15 (io) "GPIO15, ADC2_CH3, TOUCH3, MTDO, HSPICS0, RTC_GPIO13, HS2_CMD,SD_CMD, EMAC_RXD3", 24 IO2 (io) "GPIO2, ADC2_CH2, TOUCH2, RTC_GPIO12, HSPIWP, HS2_DATA0,SD_DATA0", 25 IO0 (io) "GPIO0, ADC2_CH1, TOUCH1, RTC_GPIO11, CLK_OUT1, EMAC_TX_CLK", 26 IO4 (io) "GPIO4, ADC2_CH0, TOUCH0, RTC_GPIO10, HSPIHD, HS2_DATA1,SD_DATA1, EMAC_TX_ER", 27 IO16 (io) "GPIO16, HS1_DATA4, U2RXD, EMAC_CLK_OUT", 28 IO17 (io) "GPIO17, HS1_DATA5, U2TXD, EMAC_CLK_OUT_180", 29 IO5 (io) "GPIO5, VSPICS0, HS1_DATA6, EMAC_RX_CLK", 30 IO18 (io) "GPIO18, VSPICLK, HS1_DATA7", 31 IO19 (io) "GPIO19, VSPIQ, U0CTS, EMAC_TXD0", 33 IO21 (io) "GPIO21, VSPIHD, EMAC_TX_EN", 34 RXD0 (io) "GPIO3, U0RXD, CLK_OUT2", 35 TXD0 (io) "GPIO1, U0TXD, CLK_OUT3, EMAC_RXD2", 36 IO22 (io) "GPIO22, VSPIWP, U0RTS, EMAC_TXD1", 37 IO23 (io) "GPIO23, VSPID, HS1_STROBE", 38 GND (power), 39 GND (power)

## ESP8266
designator U?
ESP8266EX delivers highly integrated Wi-Fi SoC solution to meet users’ continuous demands for efficient power usage, compact design and reliable performance in the Internet of Things industry; Manufacturer: Espressif Systems; ComponentLink1Description: Mouser; ComponentLink1URL: https://eu.mouser.com/ProductDetail/Espressif-Systems/ESP8266EX?qs=sGAEpiMZZMve4%2FbfQkoj%252BGif8WCprhV4ngk1mHM9Xjs%3D; ComponentLink2Description: DataSheet; ComponentLink2URL: https://eu.mouser.com/datasheet/2/891/0a-esp8266ex_datasheet_en-1223899.pdf; Part Number: ESP8266EX; Type: IC
footprint QFN-32
pins: 1 VDDA (power) "Analog Power 2.5 V ~ 3.6 V", 2 LNA (io) "RF antenna interface Chip output impedance = 39 + j6 Ω. It is suggested to retain the π-type matching network to match the antenna", 3 VDD3P3 (power) "Amplifier Power 2.5 V ~ 3.6 V", 4 VDD3P3 (power) "Amplifier Power 2.5 V ~ 3.6 V", 5 VDD_RTC (power) "NC (1.1 V)", 6 TOUT (in) "ADC pin. It can be used to test the power-supply voltage of VDD3P3 (Pin3 and Pin4) and the input power voltage of TOUT (Pin 6", 7 CHIP_EN (in) "Chip Enable High: On, chip works properly Low: Off, small current consumed", 8 XPD_DCDC (io) "Deep-sleep wakeup (need to be connected to EXT_RSTB); GPIO16", 9 MTMS (io) "GPIO 14; HSPI_CLK", 10 MTDI (io) "GPIO 12; HSPI_MISO", 11 VDDPST (power) "Digital/IO Power Supply (1.8 V ~ 3.6 V)", 12 MTCK (io) "GPIO 13; HSPI_MOSI; UART0_CTS", 13 MTDO (io) "GPIO 15; HSPI_CS; UART0_RTS", 14 GPIO2 (io) "UART TX during flash programming; GPIO2", 15 GPIO0 (io) "GPIO0; SPI_CS2", 16 GPIO4 (io), 17 VDDPST (power) "Digital/IO Power Supply (1.8 V ~ 3.6 V)", 18 SDIO_DATA_2 (io) "Connect to SD_D2 (Series R: 20 Ω); SPIHD; HSPIHD; GPIO9", 19 SDIO_DATA_3 (io) "Connect to SD_D3 (Series R: 200 Ω); SPIWP; HSPIWP; GPIO10", 20 SDIO_CMD (io) "Connect to SD_CMD (Series R: 200 Ω); SPI_CS0; GPIO11", 21 SDIO_CLK (io) "Connect to SD_CLK (Series R: 200 Ω); SPI_CLK; GPIO6", 22 SDIO_DATA_0 (io) "Connect to SD_D0 (Series R: 200 Ω); SPI_MISO; GPIO7", 23 SDIO_DATA_1 (io) "Connect to SD_D1 (Series R: 200 Ω); SPI_MOSI; GPIO8", 24 GPIO5 (io), 25 U0RXD (io) "UART Rx during flash programming; GPIO3", 26 U0TXD (io) "UART TX during flash programming; GPIO1; SPI_CS1", 27 XTAL_OUT (io) "Connect to crystal oscillator output, can be used to provide BT clock input", 28 XTAL_IN (io) "Connect to crystal oscillator input", 29 VDDD (power) "Analog Power 2.5 V ~ 3.6 V", 30 VDDA (power) "Analog Power 2.5 V ~ 3.6 V", 31 RES12K (in) "Serial connection with a 12 kΩ resistor and connect to the ground", 32 EXT_RSTB (in) "External reset signal (Low voltage level: active)", 33 GND (power)

## Flash 4MBytes
designator U?, comment Flash
Serial  Flash  memory providesa  storage  solution  for  systems  with  limited space,  pins  and  power.; Part Number: W25Q32BVSSIG; Manufacturer: Winbond Electronics; ComponentLink1Description: DataSheet; ComponentLink1URL: https://static.chipdip.ru/lib/081/DOC001081512.pdf; ComponentLink2Description: Chip&Dip; ComponentLink2URL: https://www.chipdip.ru/product/w25q32bvssig; Type: IC
footprint SO-8
pins: 1 CS (in) "Chip Select Input", 2 DO (io) "Data Output", 3 WP (io) "Write Protect Input", 4 GND (power), 5 DI (io) "Data Input", 6 CLK (in) "Serial Clock Input", 7 HOLD (io) "Hold Input", 8 VCC (power)

## Fuse 5A 250V
designator FU?, comment 5А
Part Number: 179020.5; Manufacturer: Siba; Type: Fuse; ComponentLink1Description: Chip&Dip; ComponentLink1URL: https://www.chipdip.ru/product/siba-179020-5
footprint Fuse Glass
pins: 1, 2

## Fuse 40A
designator FU?, comment 40A
Part Number: MF-MSMF200-2; Manufacturer: Bourns; Type: Fuse; ComponentLink1Description: Chip&Dip; ComponentLink1URL: https://www.chipdip.ru/product0/8001783899
footprint 1812 Fuse
pins: 1, 2

## Half-Brige Driver
designator U?
Driver 600V 0.6A 2-OUT Hi/Lo Side Half Brdg Inv/Non-Inv 8-Pin SOIC Tube; Part Number: IRS2104SPBF; Manufacturer: International Rectifier; ComponentLink1Description: DataSheet; ComponentLink1URL: https://static.chipdip.ru/lib/033/DOC001033366.pdf; ComponentLink2Description: Chip&Dip; ComponentLink2URL: https://www.chipdip.ru/product/irs2104s; Type: IC
footprint SO-8
pins: 1 VCC (power), 2 IN (in) "Logic Signal", 3 SD (in) "Shot-Down", 4 COM (power), 5 LO, 6 VS, 7 HO, 8 VB